# Altium footprint library Wire_ThroughHole_Connections.PcbLib: 3 footprints
Each footprint in its own frame and in the unit in brackets; x right, y up, seen from the top. Pads: shape width x height; smd on the part's side, far side on the other; paste and mask are expansions set on the pad; w line width, h text height; cw(c..) or ccw(c..) is an arc to the next point about the centre after c.
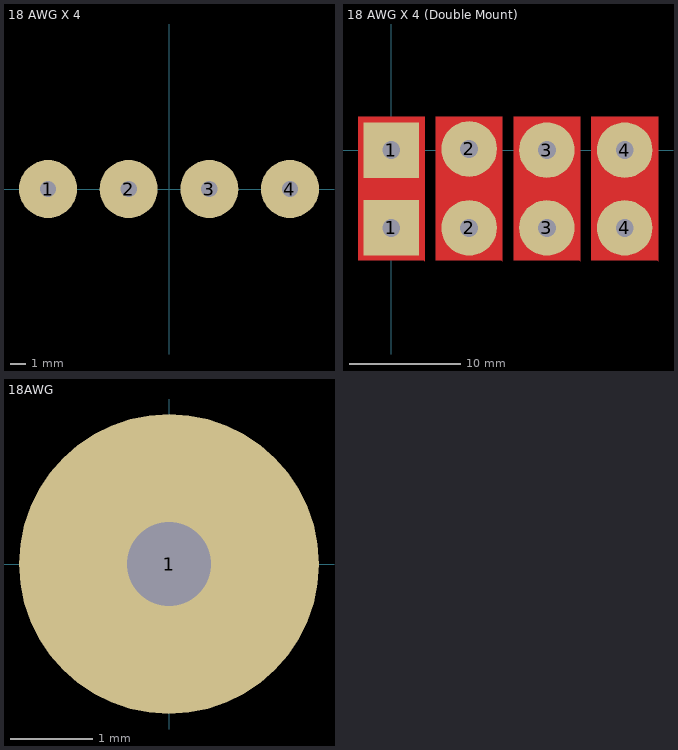
[diagram p0: the footprints below, top view; thin cyan lines are the x and y axes]

## 18 AWG X 4 [mm] "Four 18 AWG wire connections adjacently placed."
pads (4):
  round 3.66 hole 1.024: 1(-7.62,0) 2(-2.54,0) 3(2.54,0) 4(7.62,0)

## 18 AWG X 4 (Double Mount) [mm] "A double mounting point to allow for a more secure connection."
pads (8):
  rect 5x5 hole 1.6: 1(0,-7) 1(0,0)
  round 5 hole 1.6: 2(7,-7) 2(7,0.1) 3(14,-7) 3(14,0) 4(21,-7) 4(21,0)
Top Layer:
  region: -3,3 3,3 3,-10 2.9,-9.9 -3,-9.9
  region: 4,3 10,3 10,-10 9.9,-9.9 4,-9.9
  region: 11,3 17,3 17,-10 16.9,-9.9 11,-9.9
  region: 18,3 24,3 24,-10 23.9,-9.9 18,-9.9

## 18AWG [mm] "18 AWG wire connection."
pads (1):
  round 3.66 hole 1.024: 1(0,0)